# Altium schematic symbol library iHub WINC1500.SCHLIB: 41 symbols
Pins are listed as number, name and electrical type; pins without a type are passive.

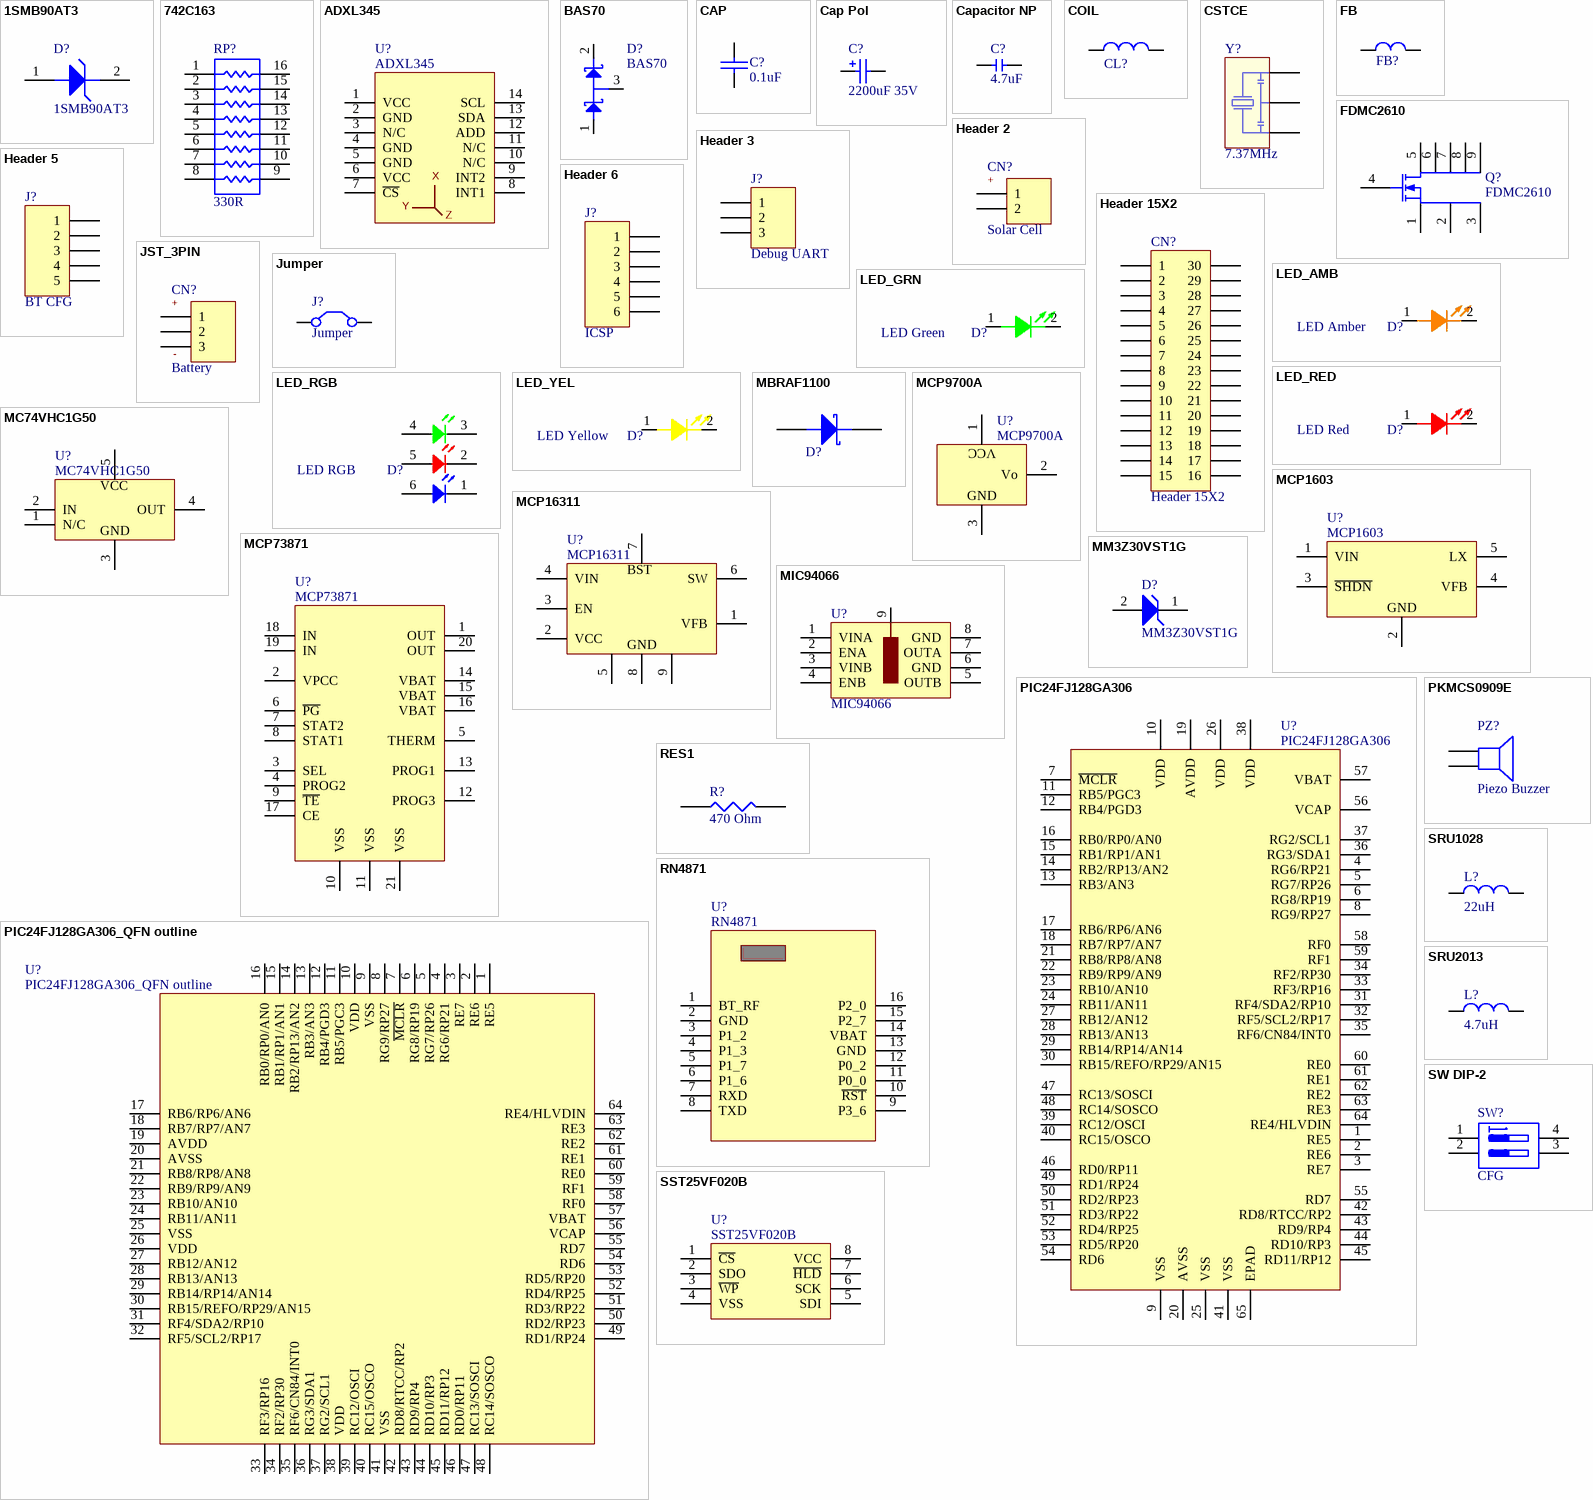
[diagram p0: symbols 1SMB90AT3 to SW DIP-2]

## 1SMB90AT3
designator D?
TVS Diode
footprint SMB
pins: 1 A, 2 K

## 742C163
designator RP?, comment 330R
Isolated Resistor Network; Published: 24-Mar-1999; LatestRevisionDate: 29-May-2009; LatestRevisionNote: IPC-7351 Footprint Added.; PackageReference: SO-16; Publisher: Altium Limited; PackageDescription: 16-Pin Small Outline Integrated Circuit 1.27 mm Pitch; Code_JEDEC: MS-012-AC; Code_IPC: SOIC127P600-16
footprint 742C163
pins: 1, 2, 3, 4, 5, 6, 7, 8, 9, 10, 11, 12, 13, 14, 15, 16

## ADXL345
designator U?
Accelerometer, I2C; Published: 24-Mar-1999; LatestRevisionDate: 29-May-2009; LatestRevisionNote: IPC-7351 Footprint Added.; PackageReference: D2PAK; Publisher: Altium Limited; PackageDescription: 3-Pin Transistor Outline Package 2.54 mm Pitch, 15.1 mm Lead Span
footprint ADXL345
pins: 1 VCC, 2 GND, 3 N/C, 4 GND, 5 GND, 6 VCC, 7 ~{CS}, 8 INT1, 9 INT2, 10 N/C, 11 N/C, 12 ADD, 13 SDA, 14 SCL
text: X; Y; Z

## BAS70
designator D?
Schottky Diode; Published: 8-Jun-2000; LatestRevisionDate: 17-Jul-2002; LatestRevisionNote: Re-released for DXP Platform.; PackageReference: SMB; Publisher: Altium Limited; PackageDescription: DO-214-AA/SMB; 2 C-Bend Leads; Body 5.3 x 3.6 mm, inc. leads (LxW); Code_JEDEC: DO-214-AA
footprint SOT-23
pins: 1 A, 2 K, 3 AK

## CAP
designator C?, comment 0.1uF
Capacitor
footprint 0603
footprint 2220
pins: 1, 2

## Cap Pol
designator C?, comment 2200uF 35V
Capacitor Polarized; Value: 100pF; Published: 8-Jun-2000; LatestRevisionDate: 29-May-2009; LatestRevisionNote: IPC-7351 Footprint Added.; PackageReference: C0805; Publisher: Altium Limited; PackageDescription: Chip Capacitor
footprint 1825 (Chip Capacitor, Body 4.5x6.4mm, IPC High Density)
footprint C2225 (Chip Capacitor, Body 5.7x6.4mm, IPC High Density)
footprint 2220 (Chip Capacitor, Body 5.7x5.0mm, IPC High Density)
footprint NICHICON-UHW
pins: 1, 2
1 alternate drawing of the same symbol

## Capacitor NP
designator C?, comment 4.7uF
Capacitor; Type: Ceramic; Revision: 0; ComponentLink1Description: Datasheet; Operating Temperature: -55C to +125C; Category: Capacitor; Quantity Override: 1
footprint 0603
footprint 0402
pins: 1, 2

## COIL
designator CL?  (value not drawn)
Manufacturer 1: TDK; Manufacturer Part Number 1: FLF3215T-4R7M; MCHP-ID: IND0071; Description_: INDUCTOR 4.7uH 1A 20% SMD 1210; DCR: 0.09R; Saturation Current: 1A; Test Frequency: 1MHz; Populated: Yes; Revision: 1; Status: Production; ComponentLink1URL: https://chn-vm-apps.microchip.com/mchprepo/parts/Datasheets/e531_flf3215.pdf; ComponentLink1Description: Datasheet; Operating Temperature: -40C to +125C; Package: 1210; Type: Inductor; Category: Inductor; Supplier 1: Digi-Key; Supplier Part Number 1: 445-4846-2-ND; Quantity Override: 1
footprint COIL
footprint COIL-0.75
pins: 1, 2

## CSTCE
designator Y?, comment 7.37MHz
Ceramic Resonator
footprint CSTCE
pins: 1, 2, 3

## FB
designator FB?  (value not drawn)
Ferrite Bead; Manufacturer 1: TDK; Manufacturer Part Number 1: FLF3215T-4R7M; MCHP-ID: IND0071; Description_: INDUCTOR 4.7uH 1A 20% SMD 1210; Type: Inductor; DCR: 0.09R; Saturation Current: 1A; Test Frequency: 1MHz; Populated: Yes; Revision: 1; Status: Production; ComponentLink1URL: https://chn-vm-apps.microchip.com/mchprepo/parts/Datasheets/e531_flf3215.pdf; ComponentLink1Description: Datasheet; Operating Temperature: -40C to +125C; Package: 1210; Category: Inductor; Supplier 1: Digi-Key; Supplier Part Number 1: 445-4846-2-ND; Quantity Override: 1
footprint 0603
footprint 0805
pins: 1, 2

## FDMC2610
designator Q?
N-Channel MOSFET; Published: 8-Jun-2000; LatestRevisionDate: 17-Jul-2002; LatestRevisionNote: Re-released for DXP Platform.; PackageVersion: 1995/1996; PackageReference: E3; Publisher: Altium Limited; PackageDescription: TO, Flat Index; 3 In-Line, Axial Leads; Body Dia. 4.6mm; Lead Dia. 0.5 mm (max)
footprint MLP-8-3.3x3.3
pins: 1 S, 2, 3, 4 G, 5 D, 6, 7, 8, 9

## Header 2
designator CN?, comment Solar Cell
Header, 2-Pin; LatestRevisionDate: 17-Jul-2002; LatestRevisionNote: Re-released for DXP Platform.; Publisher: Altium Limited
footprint B2B-PH-K-S (Connector; Header; 2 Position, 1.25mm)
footprint 1778764 (Connector; Header; 2 Position, 1.25mm)
footprint 1778557 (Connector; Header; 2 Position, 1.25mm)
pins: 1, 2
text: +

## Header 3
designator J?, comment Debug UART
Header, 3-Pin; LatestRevisionDate: 17-Jul-2002; LatestRevisionNote: Re-released for DXP Platform.; Publisher: Altium Limited
footprint HDR1X3 (Connector; Header; 3 Position)
pins: 1, 2, 3

## Header 5
designator J?, comment BT CFG
Header, 5-Pin; LatestRevisionDate: 17-Jul-2002; LatestRevisionNote: Re-released for DXP Platform.; Publisher: Altium Limited
footprint HDR1X5 (Connector; Header; 5 Position)
footprint 530470510 PADS (Connector; 5 Position, 1.25mm)
pins: 1, 2, 3, 4, 5

## Header 6
designator J?, comment ICSP
Header, 6-Pin; LatestRevisionDate: 17-Jul-2002; LatestRevisionNote: Re-released for DXP Platform.; Publisher: Altium Limited
footprint HDR1X6 (Connector; Header; 6 Position)
footprint TC2030-IDC-NL (Tag-Connect 6-Pin with No Legs (PN# TC2030-IDC-NL))
pins: 1, 2, 3, 4, 5, 6

## Header 15X2
designator CN?
Header, 30-Pin, Dual row; LatestRevisionDate: 17-Jul-2002; LatestRevisionNote: Re-released for DXP Platform.; Publisher: Altium Limited
footprint DF11CZ-30DS
pins: 1, 2, 3, 4, 5, 6, 7, 8, 9, 10, 11, 12, 13, 14, 15, 16, 17, 18, 19, 20, 21, 22, 23, 24, 25, 26, 27, 28, 29, 30

## JST_3PIN
designator CN?, comment Battery
JST Connector, 3-Pin; LatestRevisionDate: 17-Jul-2002; LatestRevisionNote: Re-released for DXP Platform.; Publisher: Altium Limited
footprint B3B-PH-K-S (Connector; Header; 3 Position, 1.25mm)
pins: 1, 2, 3
text: +; -

## Jumper
designator J?
Jumper Wire; Published: 24-Mar-1999; LatestRevisionDate: 17-Jul-2002; LatestRevisionNote: Re-released for DXP Platform.; PackageReference: RAD-0.2; Publisher: Altium Limited; PackageDescription: Radial Cap, Thru-Hole; 2 Leads; 0.2 in Pin Spacing
footprint HDR1X2
footprint 0603
pins: 1 C1, 2 C2

## LED_AMB
designator D?, comment LED Amber
Amber LED; Manufacturer 1: Lumex; Manufacturer Part Number 1: SML-LXT0805IW-TR; MCHP-ID: LED1020; Description_: DIO LED RED 2V 30mA 0805; Type: LED Single; Forward Current: 30mA; Power: 50mW; Reverse Current: 100uA; Reverse Voltage: 5V; Owner: Stephen Humberd; Populated: YES; Value: GRN; Revision: A; Status: Design; Package: 0805; ComponentLink1URL: https://chn-vm-apps.microchip.com/mchprepo/parts/Datasheets/SML-LXT0805IW-TR.pdf; ComponentLink1Description: Datasheet; Operating Temperature: -25C to +80C; Category: Diode; Supplier 1: Digi-Key; Supplier Part Number 1: 67-1552-1-ND; Quantity Override: 1
footprint LTST-C190
pins: 1 A, 2 K

## LED_GRN
designator D?, comment LED Green
Green LED; Manufacturer 1: Lumex; Manufacturer Part Number 1: SML-LXT0805IW-TR; MCHP-ID: LED1020; Description_: DIO LED RED 2V 30mA 0805; Type: LED Single; Forward Current: 30mA; Power: 50mW; Reverse Current: 100uA; Reverse Voltage: 5V; Owner: Stephen Humberd; Populated: YES; Value: GRN; Revision: A; Status: Design; Package: 0805; ComponentLink1URL: https://chn-vm-apps.microchip.com/mchprepo/parts/Datasheets/SML-LXT0805IW-TR.pdf; ComponentLink1Description: Datasheet; Operating Temperature: -25C to +80C; Category: Diode; Supplier 1: Digi-Key; Supplier Part Number 1: 67-1552-1-ND; Quantity Override: 1
footprint LTST-C190
pins: 1 A, 2 K

## LED_RED
designator D?, comment LED Red
Red LED; Manufacturer 1: Lumex; Manufacturer Part Number 1: SML-LXT0805IW-TR; MCHP-ID: LED1020; Description_: DIO LED RED 2V 30mA 0805; Type: LED Single; Forward Current: 30mA; Power: 50mW; Reverse Current: 100uA; Reverse Voltage: 5V; Owner: Stephen Humberd; Populated: YES; Revision: A; Status: Design; Package: 0805; ComponentLink1URL: https://chn-vm-apps.microchip.com/mchprepo/parts/Datasheets/SML-LXT0805IW-TR.pdf; ComponentLink1Description: Datasheet; Operating Temperature: -25C to +80C; Category: Diode; Supplier 1: Digi-Key; Supplier Part Number 1: 67-1552-1-ND; Quantity Override: 1; Value: RED
footprint LTST-C190
pins: 1 A, 2 K

## LED_RGB
designator D?, comment LED RGB
Lite On RGB LED LTST-G683GEBW; Published: 8-Jun-2000; LatestRevisionDate: 08-Jul-2005; LatestRevisionNote: Mech Layer 1 removed.; PackageReference: LED-0; Publisher: Altium Limited; PackageDescription: LED; 2 Leads
footprint LTST_G683
pins: 1 K, 2 K, 3 K, 4 A, 5 A, 6 A

## LED_YEL
designator D?, comment LED Yellow
Yellow LED; Manufacturer 1: Lumex; Manufacturer Part Number 1: SML-LXT0805IW-TR; MCHP-ID: LED1020; Description_: DIO LED RED 2V 30mA 0805; Type: LED Single; Forward Current: 30mA; Power: 50mW; Reverse Current: 100uA; Reverse Voltage: 5V; Owner: Stephen Humberd; Populated: YES; Value: GRN; Revision: A; Status: Design; Package: 0805; ComponentLink1URL: https://chn-vm-apps.microchip.com/mchprepo/parts/Datasheets/SML-LXT0805IW-TR.pdf; ComponentLink1Description: Datasheet; Operating Temperature: -25C to +80C; Category: Diode; Supplier 1: Digi-Key; Supplier Part Number 1: 67-1552-1-ND; Quantity Override: 1
footprint LTST-C190
pins: 1 A, 2 K

## MBRAF1100
designator D?  (value not drawn)
Schottky Diode
footprint SMA-FL
pins: 1 A, 2 K

## MC74VHC1G50
designator U?
Single Gate Buffer; Published: 24-Mar-1999; LatestRevisionDate: 29-May-2009; LatestRevisionNote: IPC-7351 Footprint Added.; PackageReference: D2PAK; Publisher: Altium Limited; PackageDescription: 3-Pin Transistor Outline Package 2.54 mm Pitch, 15.1 mm Lead Span
footprint TSOP-5
pins: 1 N/C, 2 IN, 3 GND, 4 OUT, 5 VCC

## MCP1603
designator U?
Buck Regulator; Published: 24-Mar-1999; LatestRevisionDate: 29-May-2009; LatestRevisionNote: IPC-7351 Footprint Added.; PackageReference: D2PAK; Publisher: Altium Limited; PackageDescription: 3-Pin Transistor Outline Package 2.54 mm Pitch, 15.1 mm Lead Span
footprint TSOP-5
pins: 1 VIN, 2 GND, 3 ~{SHDN}, 4 VFB, 5 LX

## MCP9700A
designator U?
Temperature Sensor; Published: 24-Mar-1999; LatestRevisionDate: 29-May-2009; LatestRevisionNote: IPC-7351 Footprint Added.; PackageReference: D2PAK; Publisher: Altium Limited; PackageDescription: 3-Pin Transistor Outline Package 2.54 mm Pitch, 15.1 mm Lead Span
footprint SOT-23
pins: 1 Vcc, 2 Vo, 3 GND
text: VCC

## MCP16311
designator U?
Buck Regulator; Published: 24-Mar-1999; LatestRevisionDate: 29-May-2009; LatestRevisionNote: IPC-7351 Footprint Added.; PackageReference: D2PAK; Publisher: Altium Limited; PackageDescription: 3-Pin Transistor Outline Package 2.54 mm Pitch, 15.1 mm Lead Span
footprint TDFN-8-2x3
pins: 1 VFB, 2 VCC, 3 EN, 4 VIN, 5 GND, 6 SW, 7 BST, 8 AGND, 9

## MCP73871
designator U?
Li Ion Battery Charger
footprint QFN-20
pins: 1 OUT, 2 VPCC, 3 SEL, 4 PROG2, 5 THERM, 6 ~{PG}, 7 STAT2, 8 STAT1, 9 ~{TE}, 10 VSS, 11 VSS, 12 PROG3, 13 PROG1, 14 VBAT, 15 VBAT, 16 VBAT, 17 CE, 18 IN, 19 IN, 20 OUT, 21 VSS

## MIC94066
designator U?
Dual High Side Switch; Published: 24-Mar-1999; LatestRevisionDate: 29-May-2009; LatestRevisionNote: IPC-7351 Footprint Added.; PackageReference: D2PAK; Publisher: Altium Limited; PackageDescription: 3-Pin Transistor Outline Package 2.54 mm Pitch, 15.1 mm Lead Span
footprint MLF-8-2x2
pins: 1 VINA, 2 ENA, 3 VINB, 4 ENB, 5 OUTB, 6 GND, 7 OUTA, 8 GND, 9

## MM3Z30VST1G
designator D?
Zener Diode; Published: 8-Jun-2000; LatestRevisionDate: 17-Jul-2002; LatestRevisionNote: Re-released for DXP Platform.; PackageReference: DIODE-0.7; Publisher: Altium Limited; PackageDescription: Diode, Thru-Hole; 2 Leads; 0.7 in Pin Spacing
footprint SOD-323 (MMDL914 Diode)
pins: 1 K, 2 A

## PIC24FJ128GA306
designator U?
footprint QFN-64
pins: 1 RE5, 2 RE6, 3 RE7, 4 RG6/RP21, 5 RG7/RP26, 6 RG8/RP19, 7 ~{MCLR}, 8 RG9/RP27, 9 VSS, 10 VDD, 11 RB5/PGC3, 12 RB4/PGD3, 13 RB3/AN3, 14 RB2/RP13/AN2, 15 RB1/RP1/AN1, 16 RB0/RP0/AN0, 17 RB6/RP6/AN6, 18 RB7/RP7/AN7, 19 AVDD, 20 AVSS, 21 RB8/RP8/AN8, 22 RB9/RP9/AN9, 23 RB10/AN10, 24 RB11/AN11, 25 VSS, 26 VDD, 27 RB12/AN12, 28 RB13/AN13, 29 RB14/RP14/AN14, 30 RB15/REFO/RP29/AN15, 31 RF4/SDA2/RP10, 32 RF5/SCL2/RP17, 33 RF3/RP16, 34 RF2/RP30, 35 RF6/CN84/INT0, 36 RG3/SDA1, 37 RG2/SCL1, 38 VDD, 39 RC12/OSCI, 40 RC15/OSCO, 41 VSS, 42 RD8/RTCC/RP2, 43 RD9/RP4, 44 RD10/RP3, 45 RD11/RP12, 46 RD0/RP11, 47 RC13/SOSCI, 48 RC14/SOSCO, 49 RD1/RP24, 50 RD2/RP23, 51 RD3/RP22, 52 RD4/RP25, 53 RD5/RP20, 54 RD6, 55 RD7, 56 VCAP, 57 VBAT, 58 RF0, 59 RF1, 60 RE0, 61 RE1, 62 RE2, 63 RE3, 64 RE4/HLVDIN, 65 EPAD

## PIC24FJ128GA306_QFN outline
designator U?
PIC24FJ128GA306
footprint QFN-64
pins: 1 RE5, 2 RE6, 3 RE7, 4 RG6/RP21, 5 RG7/RP26, 6 RG8/RP19, 7 ~{MCLR}, 8 RG9/RP27, 9 VSS, 10 VDD, 11 RB5/PGC3, 12 RB4/PGD3, 13 RB3/AN3, 14 RB2/RP13/AN2, 15 RB1/RP1/AN1, 16 RB0/RP0/AN0, 17 RB6/RP6/AN6, 18 RB7/RP7/AN7, 19 AVDD, 20 AVSS, 21 RB8/RP8/AN8, 22 RB9/RP9/AN9, 23 RB10/AN10, 24 RB11/AN11, 25 VSS, 26 VDD, 27 RB12/AN12, 28 RB13/AN13, 29 RB14/RP14/AN14, 30 RB15/REFO/RP29/AN15, 31 RF4/SDA2/RP10, 32 RF5/SCL2/RP17, 33 RF3/RP16, 34 RF2/RP30, 35 RF6/CN84/INT0, 36 RG3/SDA1, 37 RG2/SCL1, 38 VDD, 39 RC12/OSCI, 40 RC15/OSCO, 41 VSS, 42 RD8/RTCC/RP2, 43 RD9/RP4, 44 RD10/RP3, 45 RD11/RP12, 46 RD0/RP11, 47 RC13/SOSCI, 48 RC14/SOSCO, 49 RD1/RP24, 50 RD2/RP23, 51 RD3/RP22, 52 RD4/RP25, 53 RD5/RP20, 54 RD6, 55 RD7, 56 VCAP, 57 VBAT, 58 RF0, 59 RF1, 60 RE0, 61 RE1, 62 RE2, 63 RE3, 64 RE4/HLVDIN

## PKMCS0909E
designator PZ?, comment Piezo Buzzer
Published: 24-Mar-1999; LatestRevisionDate: 17-Jul-2002; LatestRevisionNote: Re-released for DXP Platform.; PackageReference: PIN2; Publisher: Altium Limited
footprint PKMCS0909E
pins: 1, 2

## RES1
designator R?, comment 470 Ohm
footprint 0603
pins: 1, 2

## RN4871
designator U?
BLE Module; Published: 24-Mar-1999; LatestRevisionDate: 17-Jul-2002; LatestRevisionNote: Re-released for DXP Platform.; PackageReference: TSOP-5; Publisher: Altium Limited; PackageDescription: Bridge Rectifier; 4 Terminals; Body 16.8 x 16.8 mm (typ); Pitch 10.67 mm
footprint RN4871
pins: 1 BT_RF, 2 GND, 3 P1_2, 4 P1_3, 5 P1_7, 6 P1_6, 7 RXD, 8 TXD, 9 P3_6, 10 ~{RST}, 11 P0_0, 12 P0_2, 13 GND, 14 VBAT, 15 P2_7, 16 P2_0

## SRU1028
designator L?, comment 22uH
SRU1028; Manufacturer 1: TDK; Manufacturer Part Number 1: FLF3215T-4R7M; MCHP-ID: IND0071; Description_: INDUCTOR 4.7uH 1A 20% SMD 1210; Type: Inductor; DCR: 0.09R; Saturation Current: 1A; Test Frequency: 1MHz; Populated: Yes; Revision: 1; Status: Production; ComponentLink1URL: https://chn-vm-apps.microchip.com/mchprepo/parts/Datasheets/e531_flf3215.pdf; ComponentLink1Description: Datasheet; Operating Temperature: -40C to +125C; Package: 1210; Category: Inductor; Supplier 1: Digi-Key; Supplier Part Number 1: 445-4846-2-ND; Quantity Override: 1
footprint SRU1028
footprint SRP6540
pins: 1, 2

## SRU2013
designator L?, comment 4.7uH
SRU2013; Manufacturer 1: TDK; Manufacturer Part Number 1: FLF3215T-4R7M; MCHP-ID: IND0071; Description_: INDUCTOR 4.7uH 1A 20% SMD 1210; Type: Inductor; DCR: 0.09R; Saturation Current: 1A; Test Frequency: 1MHz; Populated: Yes; Revision: 1; Status: Production; ComponentLink1URL: https://chn-vm-apps.microchip.com/mchprepo/parts/Datasheets/e531_flf3215.pdf; ComponentLink1Description: Datasheet; Operating Temperature: -40C to +125C; Package: 1210; Category: Inductor; Supplier 1: Digi-Key; Supplier Part Number 1: 445-4846-2-ND; Quantity Override: 1
footprint SRU2013
pins: 1, 2

## SST25VF020B
designator U?
Serial FLASH, 2Mb; Published: 24-Mar-1999; LatestRevisionDate: 29-May-2009; LatestRevisionNote: IPC-7351 Footprint Added.; PackageReference: D2PAK; Publisher: Altium Limited; PackageDescription: 3-Pin Transistor Outline Package 2.54 mm Pitch, 15.1 mm Lead Span
footprint DFN-8-6x5
pins: 1 ~{CS}, 2 SDO, 3 ~{WP}, 4 VSS, 5 SDI, 6 SCK, 7 ~{HLD}, 8 VCC

## SW DIP-2
designator SW?, comment CFG
DIP Switch, 2 Position, SPST; Published: 24-Mar-1999; LatestRevisionDate: 17-Jul-2002; LatestRevisionNote: Re-released for DXP Platform.; PackageReference: DIP-6; Publisher: Altium Limited; Code_JEDEC: MO-001-AM
footprint DM02
pins: 1 A1, 2 A2, 3 A3, 4 B3

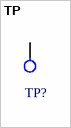
[diagram p1: symbol TP]

## TP
designator TP?, comment Test Point  (value not drawn)
footprint TP
footprint TP2
pins: 1